# Altium schematic symbol library RE_RES.Schlib: 1 symbol
Pins are listed as number, name and electrical type; pins without a type are passive.

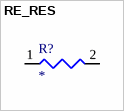
[diagram p0: symbol RE_RES]

## RE_RES
designator R?
Resistor
pins: 1, 2